# Altium footprint library LEDs.PcbLib: 17 footprints (part 2 of 2)
Each footprint in its own frame and in the unit in brackets; x right, y up, seen from the top. Pads: shape width x height; smd on the part's side, far side on the other; paste and mask are expansions set on the pad; w line width, h text height; cw(c..) or ccw(c..) is an arc to the next point about the centre after c.
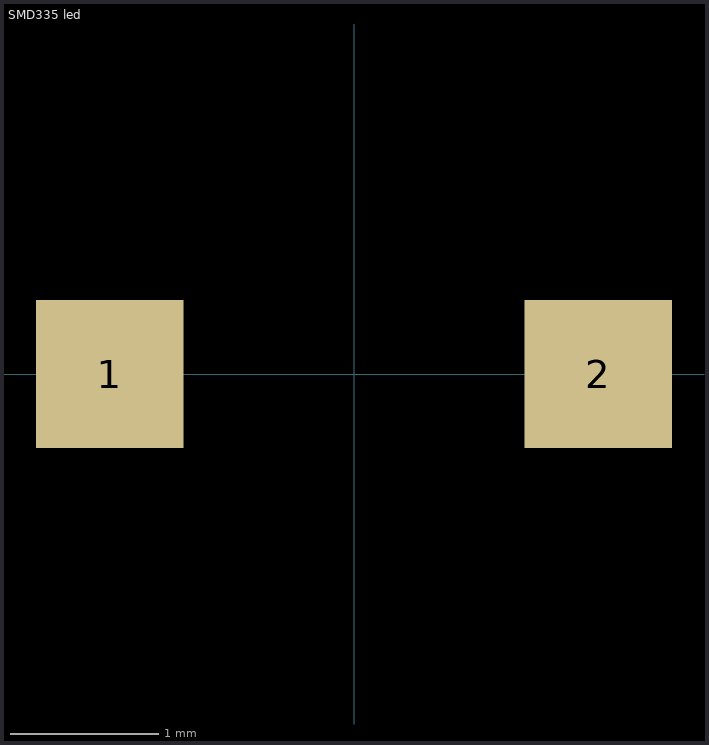
[diagram p1: the footprint, top view; thin cyan lines are the x and y axes]

## SMD335 led [mm] "side glow"
pads (2):
  rect 1x1 smd: 1(-1.651,0) 2(1.651,0)
3D body "side glow led 335.STEP": height 0.49, standoff 0.01, extent -1.96,-0.411 1.96,0.889